# EAGLE library part INTEL_JOULE_J6 (library joule_shield)
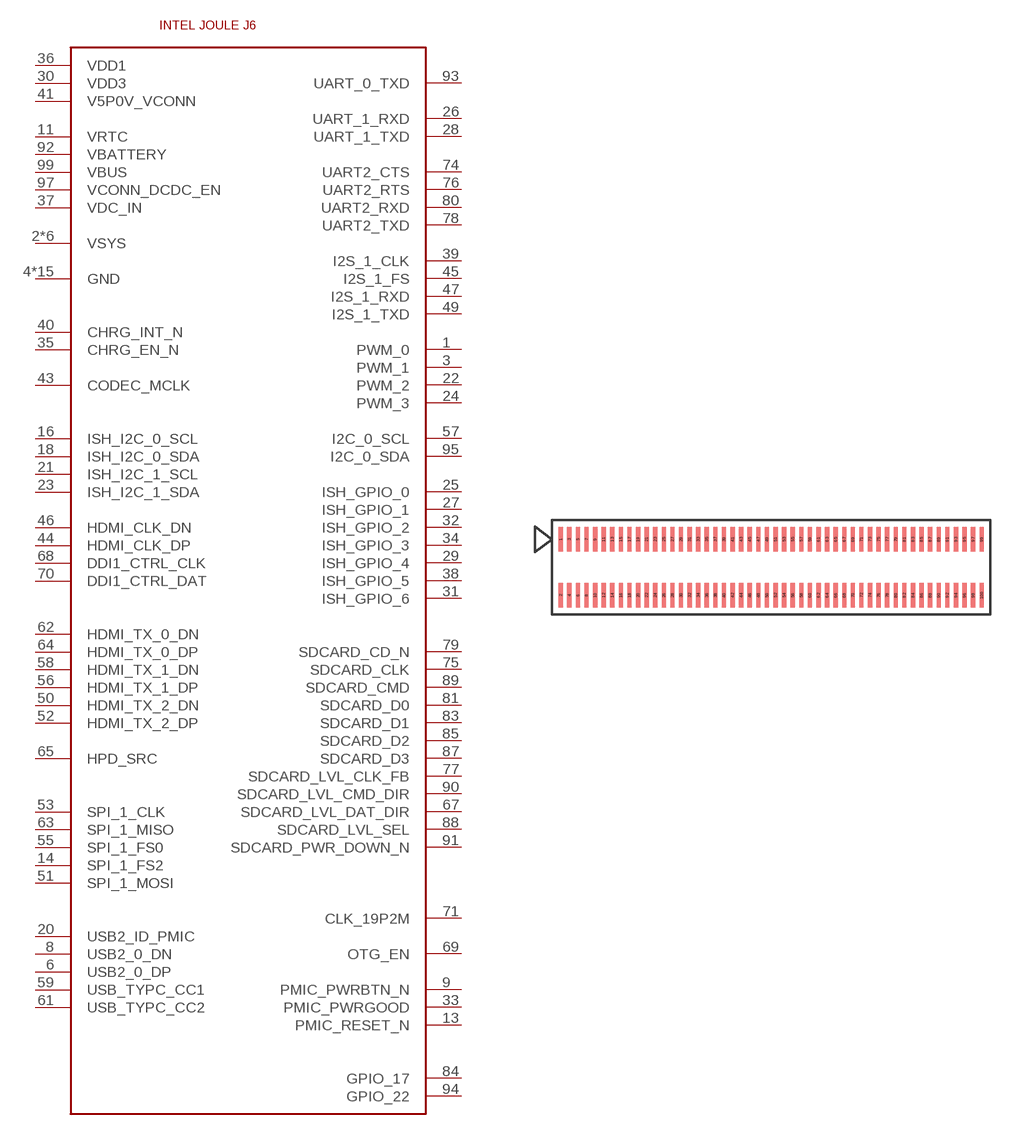
[diagram p0: symbol with the pads of HIROSE-40C-100DS; footprint HIROSE-40C-100DS]

Designator prefix -

## INTEL_JOULE_J6  [HIROSE-40C-100DS]
1  PWM_0
2  VSYS
3  PWM_1
4  GND
5  VSYS
6  USB2_0_DP
7  VSYS
8  USB2_0_DN
9  PMIC_PWRBTN_N
10  GND
11  VRTC
12  VSYS
13  PMIC_RESET_N
14  SPI_1_FS2
15  VSYS
16  ISH_I2C_0_SCL
17  VSYS
18  ISH_I2C_0_SDA
19  GND
20  USB2_ID_PMIC
21  ISH_I2C_1_SCL
22  PWM_2
23  ISH_I2C_1_SDA
24  PWM_3
25  ISH_GPIO_0
26  UART_1_RXD
27  ISH_GPIO_1
28  UART_1_TXD
29  ISH_GPIO_4
30  VDD3
31  ISH_GPIO_6
32  ISH_GPIO_2
33  PMIC_PWRGOOD
34  ISH_GPIO_3
35  CHRG_EN_N
36  VDD1
37  VDC_IN
38  ISH_GPIO_5
39  I2S_1_CLK
40  CHRG_INT_N
41  V5P0V_VCONN
42  GND
43  CODEC_MCLK
44  HDMI_CLK_DP
45  I2S_1_FS
46  HDMI_CLK_DN
47  I2S_1_RXD
48  GND
49  I2S_1_TXD
50  HDMI_TX_2_DN
51  SPI_1_MOSI
52  HDMI_TX_2_DP
53  SPI_1_CLK
54  GND
55  SPI_1_FS0
56  HDMI_TX_1_DP
57  I2C_0_SCL
58  HDMI_TX_1_DN
59  USB_TYPC_CC1
60  GND
61  USB_TYPC_CC2
62  HDMI_TX_0_DN
63  SPI_1_MISO
64  HDMI_TX_0_DP
65  HPD_SRC
66  GND
67  SDCARD_LVL_DAT_DIR
68  DDI1_CTRL_CLK
69  OTG_EN
70  DDI1_CTRL_DAT
71  CLK_19P2M
72  GND
73  GND
74  UART2_CTS
75  SDCARD_CLK
76  UART2_RTS
77  SDCARD_LVL_CLK_FB
78  UART2_TXD
79  SDCARD_CD_N
80  UART2_RXD
81  SDCARD_D0
82  GND
83  SDCARD_D1
84  GPIO_17
85  SDCARD_D2
86  GND
87  SDCARD_D3
88  SDCARD_LVL_SEL
89  SDCARD_CMD
90  SDCARD_LVL_CMD_DIR
91  SDCARD_PWR_DOWN_N
92  VBATTERY
93  UART_0_TXD
94  GPIO_22
95  I2C_0_SDA
96  GND
97  VCONN_DCDC_EN
98  GND
99  VBUS
100  GND

## Footprint HIROSE-40C-100DS (pad centres in mm)
smd 0.2 x 1.14: 1 -9.8,1.3; 2 -9.8,-1.3; 3 -9.4,1.3; 4 -9.4,-1.3; 5 -9,1.3; 6 -9,-1.3; 7 -8.6,1.3; 8 -8.6,-1.3; 9 -8.2,1.3; 10 -8.2,-1.3; 11 -7.8,1.3; 12 -7.8,-1.3; 13 -7.4,1.3; 14 -7.4,-1.3; 15 -7,1.3; 16 -7,-1.3; 17 -6.6,1.3; 18 -6.6,-1.3; 19 -6.2,1.3; 20 -6.2,-1.3; 21 -5.8,1.3; 22 -5.8,-1.3; 23 -5.4,1.3; 24 -5.4,-1.3; 25 -5,1.3; 26 -5,-1.3; 27 -4.6,1.3; 28 -4.6,-1.3; 29 -4.2,1.3; 30 -4.2,-1.3; 31 -3.8,1.3; 32 -3.8,-1.3; 33 -3.4,1.3; 34 -3.4,-1.3; 35 -3,1.3; 36 -3,-1.3; 37 -2.6,1.3; 38 -2.6,-1.3; 39 -2.2,1.3; 40 -2.2,-1.3; 41 -1.8,1.3; 42 -1.8,-1.3; 43 -1.4,1.3; 44 -1.4,-1.3; 45 -1,1.3; 46 -1,-1.3; 47 -0.6,1.3; 48 -0.6,-1.3; 49 -0.2,1.3; 50 -0.2,-1.3; 51 0.2,1.3; 52 0.2,-1.3; 53 0.6,1.3; 54 0.6,-1.3; 55 1,1.3; 56 1,-1.3; 57 1.4,1.3; 58 1.4,-1.3; 59 1.8,1.3; 60 1.8,-1.3; 61 2.2,1.3; 62 2.2,-1.3; 63 2.6,1.3; 64 2.6,-1.3; 65 3,1.3; 66 3,-1.3; 67 3.4,1.3; 68 3.4,-1.3; 69 3.8,1.3; 70 3.8,-1.3; 71 4.2,1.3; 72 4.2,-1.3; 73 4.6,1.3; 74 4.6,-1.3; 75 5,1.3; 76 5,-1.3; 77 5.4,1.3; 78 5.4,-1.3; 79 5.8,1.3; 80 5.8,-1.3; 81 6.2,1.3; 82 6.2,-1.3; 83 6.6,1.3; 84 6.6,-1.3; 85 7,1.3; 86 7,-1.3; 87 7.4,1.3; 88 7.4,-1.3; 89 7.8,1.3; 90 7.8,-1.3; 91 8.2,1.3; 92 8.2,-1.3; 93 8.6,1.3; 94 8.6,-1.3; 95 9,1.3; 96 9,-1.3; 97 9.4,1.3; 98 9.4,-1.3; 99 9.8,1.3; 100 9.8,-1.3